# Altium footprint library MT-SWD V1.0.0.PcbLib: 3 footprints
Each footprint in its own frame and in the unit in brackets; x right, y up, seen from the top. Pads: shape width x height; smd on the part's side, far side on the other; paste and mask are expansions set on the pad; w line width, h text height; cw(c..) or ccw(c..) is an arc to the next point about the centre after c.
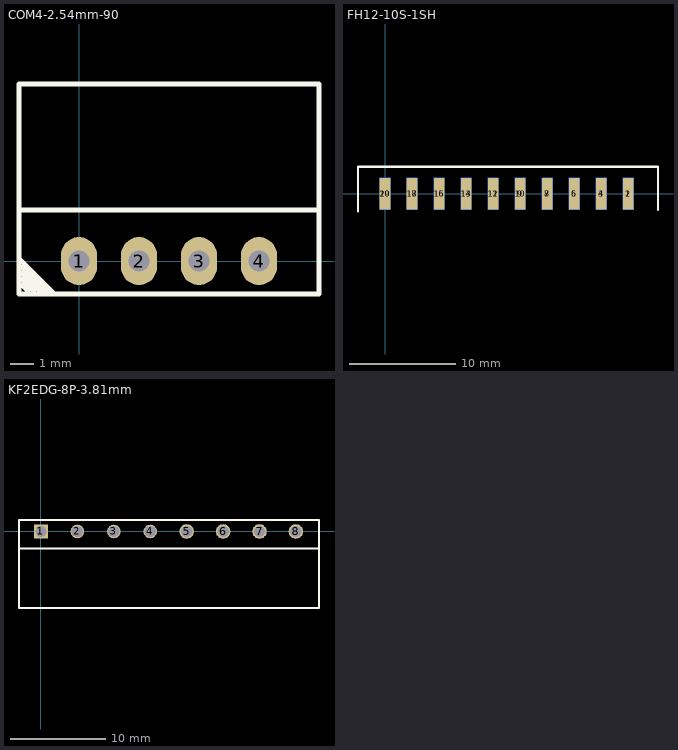
[diagram p0: the footprints below, top view; thin cyan lines are the x and y axes]

## COM4-2.54mm-90 [mil]
pads (4):
  oval 60x80 hole 35: 1(0,0) 2(100,0) 3(200,0) 4(300,0)
Top Overlay:
  lines w7.87: -100,-55 400,-55 400,295 ; -100,-40 -95,-40 -85,-50 ; -100,-30 -95,-30 -75,-50 ; -100,-20 -95,-20 -60,-55 ; -100,-10 -95,-10 -50,-55 ; -100,85 400,85 ; -40,-55 -100,5 -100,15 -100,0 -100,295.28 400,295.28
  lines w8: -100,-55 -100,150

## FH12-10S-1SH [mm]
pads (20):
  rect 1x3 smd: 1(22.86,-0.005) 3(20.32,-0.005) 5(17.78,-0.005) 7(15.24,-0.005) 9(12.7,-0.005) 11(10.16,-0.005) 13(7.62,-0.005) 15(5.08,-0.005) 17(2.54,-0.005) 19(0,-0.005)
  rect 1x3 smd far side: 2(22.86,0.005) 4(20.32,0.005) 6(17.78,0.005) 8(15.24,0.005) 10(12.7,0.005) 12(10.16,0.005) 14(7.62,0.005) 16(5.08,0.005) 18(2.54,0.005) 20(0,0.005)
Top Overlay:
  lines w0.2: -2.54,-1.651 -2.54,2.54 -1.397,2.54 24.13,2.54 25.654,2.54 25.654,-1.524

## KF2EDG-8P-3.81mm [mil]
height 9.5
pads (8):
  rect 56x56 hole 47.24: 1(0,0)
  round 56 hole 47.24: 2(150,0) 3(300,0) 4(450,0)
  round 60 hole 47.24: 5(600,0) 6(750,0) 7(900,0) 8(1050,0)
Top Overlay:
  lines w7.87: -90.55,-70 1145,-70 ; -90.55,-314.96 -90.55,47.24 1145,47.24 1145,-314.96 -90.55,-314.96